# Altium schematic symbol library C&K Slide Switch 3-pin.SchLib: 1 symbol
Pins are listed as number, name and electrical type; pins without a type are passive.

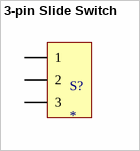
[diagram p0: symbol 3-pin Slide Switch]

## 3-pin Slide Switch
designator S?
Manufacturer: C&K; Mfg No.: OS102011MS2QN1
footprint 3-pin Slide Switch
pins: 1, 2, 3